# Altium schematic symbol library SWITCH.SchLib: 1 symbol
Pins are listed as number, name and electrical type; pins without a type are passive.

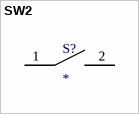
[diagram p0: symbol SW2]

## SW2
designator S?
pins: 1, 2